# EAGLE library part TSW-D-66 (library con-samtec-tsw)
HEADER
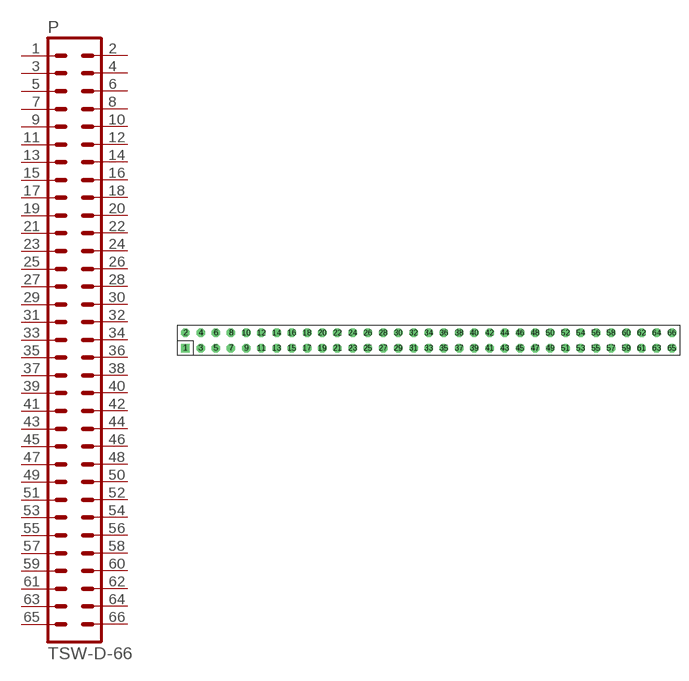
[diagram p120: symbol with the pads of TSW-D-66; footprint TSW-D-66]

Designator prefix P

## TSW-D-66  [TSW-D-66]
1  1  pas
2  2  pas
3  3  pas
4  4  pas
5  5  pas
6  6  pas
7  7  pas
8  8  pas
9  9  pas
10  10  pas
11  11  pas
12  12  pas
13  13  pas
14  14  pas
15  15  pas
16  16  pas
17  17  pas
18  18  pas
19  19  pas
20  20  pas
21  21  pas
22  22  pas
23  23  pas
24  24  pas
25  25  pas
26  26  pas
27  27  pas
28  28  pas
29  29  pas
30  30  pas
31  31  pas
32  32  pas
33  33  pas
34  34  pas
35  35  pas
36  36  pas
37  37  pas
38  38  pas
39  39  pas
40  40  pas
41  41  pas
42  42  pas
43  43  pas
44  44  pas
45  45  pas
46  46  pas
47  47  pas
48  48  pas
49  49  pas
50  50  pas
51  51  pas
52  52  pas
53  53  pas
54  54  pas
55  55  pas
56  56  pas
57  57  pas
58  58  pas
59  59  pas
60  60  pas
61  61  pas
62  62  pas
63  63  pas
64  64  pas
65  65  pas
66  66  pas

## Footprint TSW-D-66 (pad centres in mm)
HEADER
drill 0.914 square: 1 -40.64,-1.27
drill 0.914 octagon: 2 -40.64,1.27; 3 -38.1,-1.27; 4 -38.1,1.27; 5 -35.56,-1.27; 6 -35.56,1.27; 7 -33.02,-1.27; 8 -33.02,1.27; 9 -30.48,-1.27; 10 -30.48,1.27; 11 -27.94,-1.27; 12 -27.94,1.27; 13 -25.4,-1.27; 14 -25.4,1.27; 15 -22.86,-1.27; 16 -22.86,1.27; 17 -20.32,-1.27; 18 -20.32,1.27; 19 -17.78,-1.27; 20 -17.78,1.27; 21 -15.24,-1.27; 22 -15.24,1.27; 23 -12.7,-1.27; 24 -12.7,1.27; 25 -10.16,-1.27; 26 -10.16,1.27; 27 -7.62,-1.27; 28 -7.62,1.27; 29 -5.08,-1.27; 30 -5.08,1.27; 31 -2.54,-1.27; 32 -2.54,1.27; 33 0,-1.27; 34 0,1.27; 35 2.54,-1.27; 36 2.54,1.27; 37 5.08,-1.27; 38 5.08,1.27; 39 7.62,-1.27; 40 7.62,1.27; 41 10.16,-1.27; 42 10.16,1.27; 43 12.7,-1.27; 44 12.7,1.27; 45 15.24,-1.27; 46 15.24,1.27; 47 17.78,-1.27; 48 17.78,1.27; 49 20.32,-1.27; 50 20.32,1.27; 51 22.86,-1.27; 52 22.86,1.27; 53 25.4,-1.27; 54 25.4,1.27; 55 27.94,-1.27; 56 27.94,1.27; 57 30.48,-1.27; 58 30.48,1.27; 59 33.02,-1.27; 60 33.02,1.27; 61 35.56,-1.27; 62 35.56,1.27; 63 38.1,-1.27; 64 38.1,1.27; 65 40.64,-1.27; 66 40.64,1.27